# EAGLE library part ATTINY13 (library sj_mcu)
ATtiny13 MCU - 1KB FLASH, 64B SRAM, 64B EEPROM
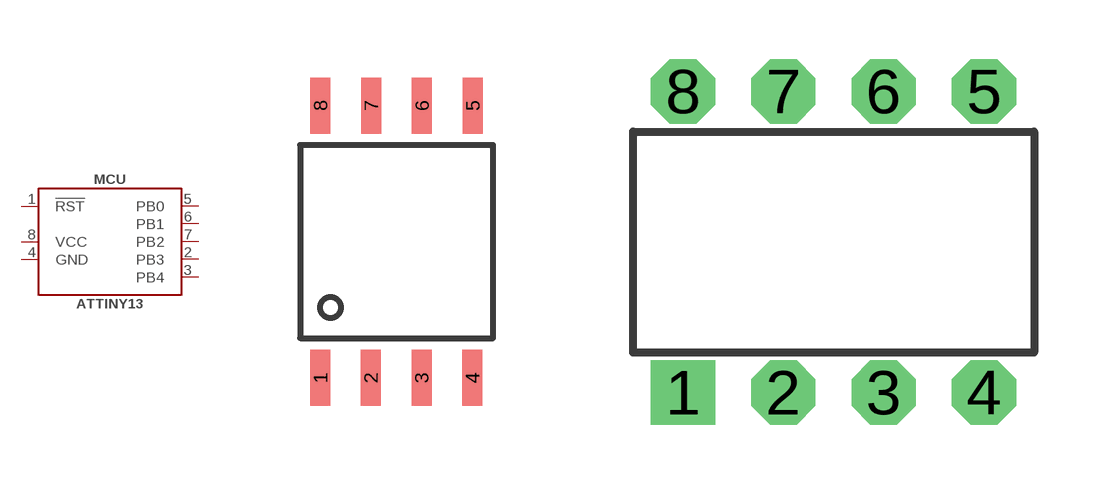
[diagram p2: symbol with the pads of SOP08; footprints SOP08, DIP08]

Designator prefix MCU

## ATTINY13A-SU  [SOP08]
1  !RST
2  PB3
3  PB4
4  GND  pwr
5  PB0
6  PB1
7  PB2
8  VCC  pwr

## ATTINY13A-PU  [DIP08]
Pads as for SOP08

## Footprint SOP08 (pad centres in mm)
8pin Small Outline Package
smd 0.5 x 1.4: 1 -1.905,-3.404; 2 -0.645,-3.404; 3 0.625,-3.404; 4 1.895,-3.404; 5 1.905,3.404; 6 0.635,3.404; 7 -0.635,3.404; 8 -1.905,3.404

## Footprint DIP08 (pad centres in mm)
8-pin Dual In Line Package
drill 0.813 pad 1.626 square: 1 -3.81,-3.81
drill 0.813 pad 1.626 octagon: 2 -1.27,-3.81; 3 1.27,-3.81; 4 3.81,-3.81; 5 3.81,3.81; 6 1.27,3.81; 7 -1.27,3.81; 8 -3.81,3.81